# Altium schematic symbol library SnapEDAsch.SchLib: 1 symbol
Pins are listed as number, name and electrical type; pins without a type are passive.

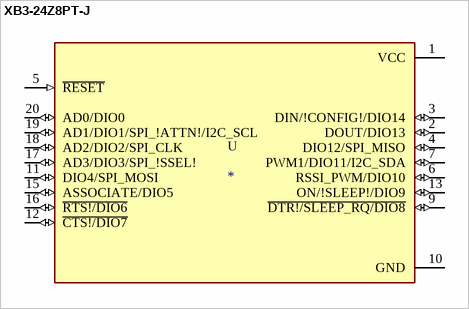
[diagram p0: symbol XB3-24Z8PT-J]

## XB3-24Z8PT-J
designator U
802.15.4 ZigbeeÂ® Transceiver Module 2.4GHz Integrated, Trace Through Hole; MP: XB3-24Z8PT-J; MF: Digi International; Value: *; Digi-Key_Purchase_URL: https://www.digikey.ch/product-detail/en/digi/XB3-24Z8PT-J/602-2188-ND/8130934?utm_source=snapeda&utm_medium=aggregator&utm_campaign=symbol; Package: Module Digi International; SnapEDA_Link: https://www.snapeda.com/parts/XB3-24Z8PT-J/Digi%20International/view-part/2751315/?ref=snap; Digi-Key_Part_Number: 602-2188-ND
footprint XCVR_XB3-24Z8PT-J
pins: 1 VCC (power), 2 DOUT/DIO13 (io), 3 DIN/!CONFIG!/DIO14 (io), 4 DIO12/SPI_MISO (io), 5 ~{RESET} (in), 6 RSSI_PWM/DIO10 (io), 7 PWM1/DIO11/I2C_SDA (io), 9 ~{DTR!/SLEEP_RQ/DIO8} (io), 10 GND (power), 11 DIO4/SPI_MOSI (io), 12 ~{CTS!/DIO7} (io), 13 ON/!SLEEP!/DIO9 (io), 15 ASSOCIATE/DIO5 (io), 16 ~{RTS!/DIO6} (io), 17 AD3/DIO3/SPI_!SSEL! (io), 18 AD2/DIO2/SPI_CLK (io), 19 AD1/DIO1/SPI_!ATTN!/I2C_SCL (io), 20 AD0/DIO0 (io)